# Altium footprint library 6_to_14_Pin.PcbLib: 65 footprints (part 1 of 5)
Each footprint in its own frame and in the unit in brackets; x right, y up, seen from the top. Pads: shape width x height; smd on the part's side, far side on the other; paste and mask are expansions set on the pad; w line width, h text height; cw(c..) or ccw(c..) is an arc to the next point about the centre after c.
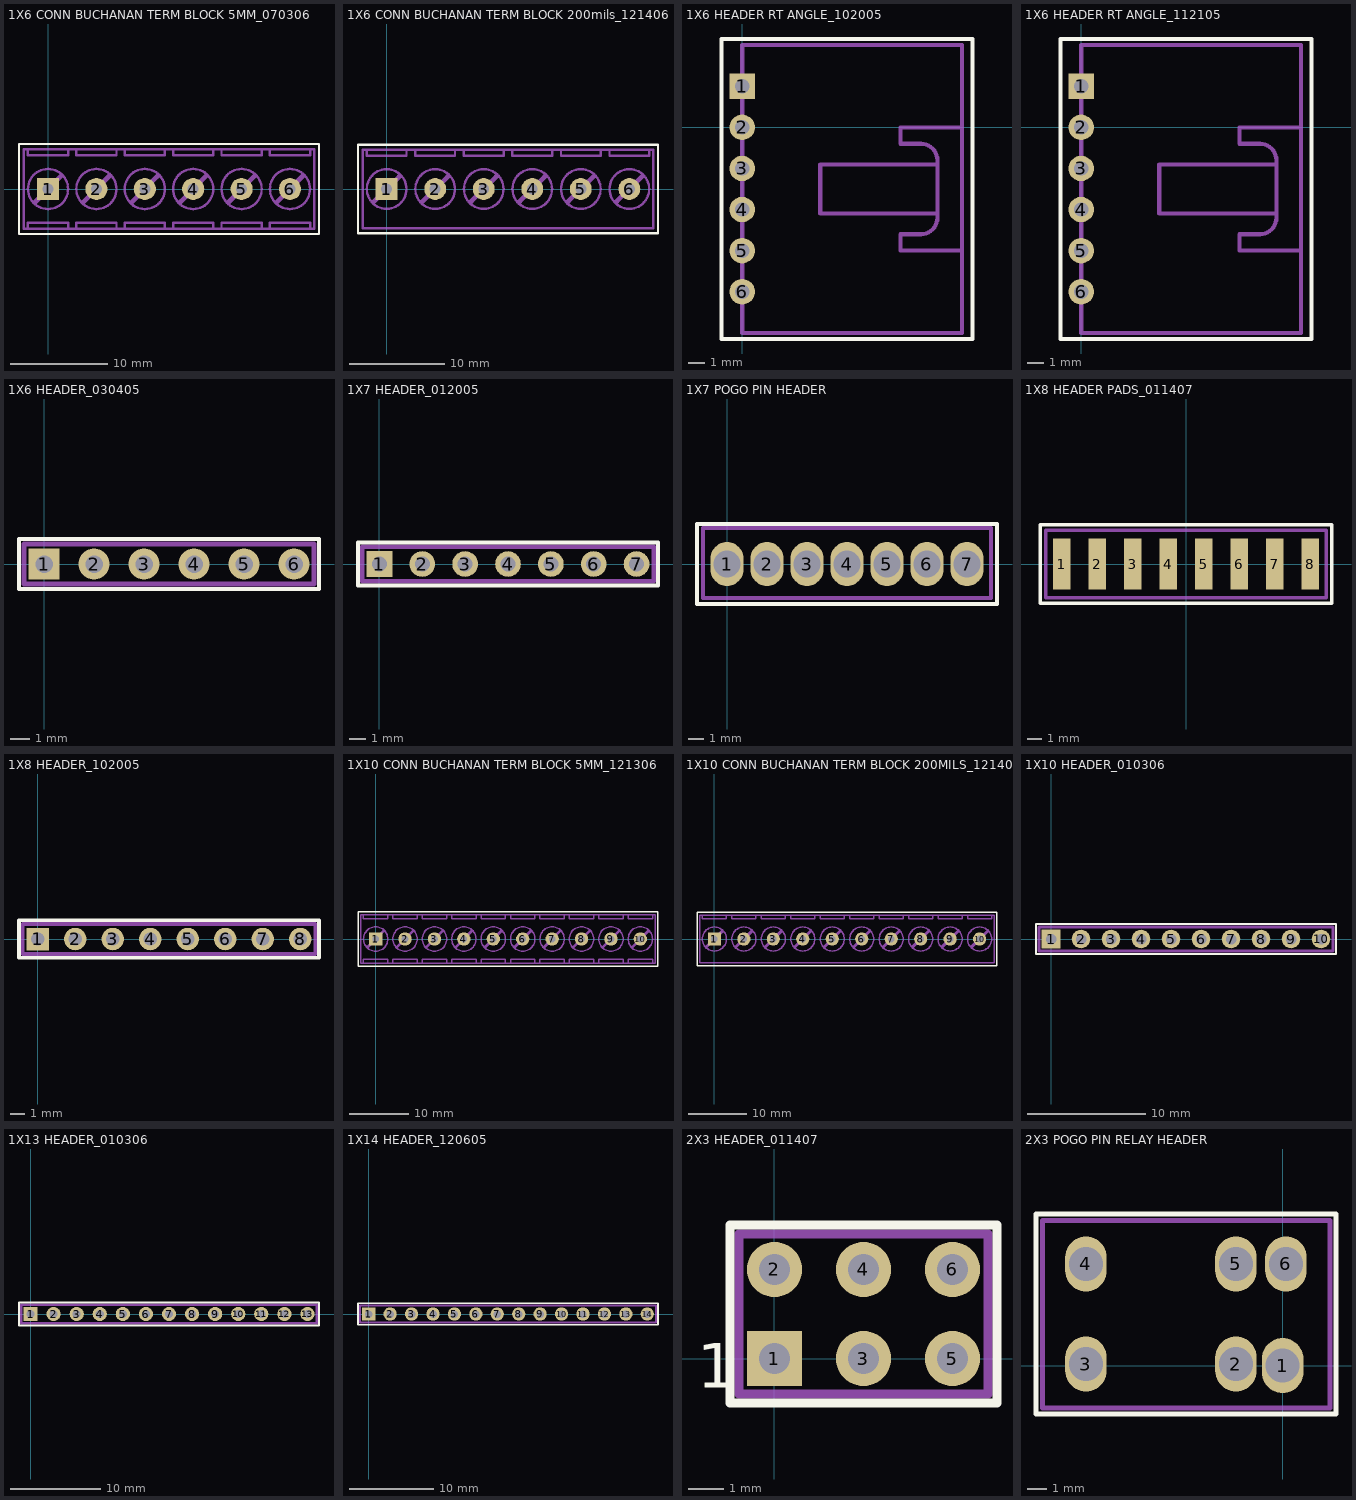
[diagram p0: the footprints below, top view; thin cyan lines are the x and y axes]

## 1X6 CONN BUCHANAN TERM BLOCK 5MM_070306 [mil] "TH"
height 393.7
pads (6):
  rect 90x90 hole 45: 1(0,0)
  round 90 hole 45: 2(196.85,0) 3(393.7,0) 4(590.55,0) 5(787.4,0) 6(984.25,0)
Top Overlay:
  lines w10: -118.11,-183.07 1000.98,-183.07 1102.36,-183.07 1102.36,0 1102.36,183.07 -16.73,183.07 -118.11,183.07 -118.11,0 -118.11,-183.07
Assembly Outline:
  circle w10: c984.25,0 r81.69
  circle w10: c787.4,0 r81.69
  circle w10: c590.55,0 r81.69
  circle w10: c393.7,0 r81.69
  circle w10: c196.85,0 r81.69
  circle w10: c0,0 r81.69
  lines w10: -81.69,-161.42 -81.69,-136.81 0,-136.81 81.69,-136.81 81.69,-161.42 ; -81.69,161.42 -81.69,136.81 0,136.81 81.69,136.81 81.69,161.42 ; 115.16,-161.42 115.16,-136.81 196.85,-136.81 278.54,-136.81 278.54,-161.42 ; 115.16,161.42 115.16,136.81 196.85,136.81 278.54,136.81 278.54,161.42 ; 312.01,-161.42 312.01,-136.81 393.7,-136.81 475.39,-136.81 475.39,-161.42 ; 312.01,161.42 312.01,136.81 393.7,136.81 475.39,136.81 475.39,161.42 ; 508.86,-161.42 508.86,-136.81 590.55,-136.81 672.24,-136.81 672.24,-161.42 ; 508.86,161.42 508.86,136.81 590.55,136.81 672.24,136.81 672.24,161.42 ; 705.71,-161.42 705.71,-136.81 787.4,-136.81 869.09,-136.81 869.09,-161.42 ; 705.71,161.42 705.71,136.81 787.4,136.81 869.09,136.81 869.09,161.42 ; 902.56,-161.42 902.56,-136.81 984.25,-136.81 1065.94,-136.81 1065.94,-161.42 ; 902.56,161.42 902.56,136.81 984.25,136.81 1065.94,136.81 1065.94,161.42 ; 0,-161.42 -98.43,-161.42 -98.43,0 -98.43,161.42 0,161.42 984.25,161.42 1082.68,161.42 1082.68,0 1082.68,-161.42 984.25,-161.42 ; 0,-161.42 984.25,-161.42 ; 0,-161.42 984.25,-161.42
  lines w20: -53.15,-53.15 0,0 53.15,53.15 ; 143.7,-53.15 196.85,0 250,53.15 ; 340.55,-53.15 393.7,0 446.85,53.15 ; 537.4,-53.15 590.55,0 643.7,53.15 ; 734.25,-53.15 787.4,0 840.55,53.15 ; 931.1,-53.15 984.25,0 1037.4,53.15
Assembly Designator:
  text ".Designator" at 464.57,-16.73 h40
Assembly Comment:
  text ".Comment" at 145.67,-113.19 h40

## 1X6 CONN BUCHANAN TERM BLOCK 200mils_121406 [mil] "TH"
height 393.7
pads (6):
  rect 90x90 hole 45: 1(0,0)
  round 90 hole 45: 2(200,0) 3(400,0) 4(600,0) 5(800,0) 6(1000,0)
Top Overlay:
  lines w10: -118.11,-183.07 -118.11,0 -118.11,183.07 -16.73,183.07 1118.11,183.07 1118.11,0 1118.11,-183.07 1000.98,-183.07 -118.11,-183.07
Assembly Outline:
  circle w10: c0,0 r81.69
  circle w10: c200,0 r81.69
  circle w10: c400,0 r81.69
  circle w10: c600,0 r81.69
  circle w10: c800,0 r81.69
  circle w10: c1000,0 r81.69
  lines w10: -81.69,161.42 -81.69,136.81 0,136.81 81.69,136.81 81.69,161.42 ; 118.31,161.42 118.31,136.81 200,136.81 281.69,136.81 281.69,161.42 ; 318.31,161.42 318.31,136.81 400,136.81 481.69,136.81 481.69,161.42 ; 518.31,161.42 518.31,136.81 600,136.81 681.69,136.81 681.69,161.42 ; 718.31,161.42 718.31,136.81 800,136.81 881.69,136.81 881.69,161.42 ; 918.31,161.42 918.31,136.81 1000,136.81 1081.69,136.81 1081.69,161.42 ; 980,-161.42 1098.43,-161.42 1098.43,0 1098.43,161.42 1000,161.42 0,161.42 -98.43,161.42 -98.43,0 -98.43,-161.42 0,-161.42 984.25,-161.42
  lines w20: -53.15,-53.15 0,0 53.15,53.15 ; 146.85,-53.15 200,0 253.15,53.15 ; 346.85,-53.15 400,0 453.15,53.15 ; 546.85,-53.15 600,0 653.15,53.15 ; 746.85,-53.15 800,0 853.15,53.15 ; 946.85,-53.15 1000,0 1053.15,53.15
Assembly Designator:
  text ".Designator" at 464.57,-16.73 h40
Assembly Comment:
  text ".Comment" at 145.67,-113.19 h40

## 1X6 HEADER RT ANGLE_102005 [mil] "TH"
height 200
pads (6):
  rect 62x62 hole 35: 1(0,100)
  round 62 hole 35: 2(0,0) 3(0,-100) 4(0,-200) 5(0,-300) 6(0,-400)
Top Overlay:
  lines w10: -50,-515 -50,215 560,215 560,-515 -50,-515
Assembly Outline:
  lines w10: 0,-500 0,200 ; 0,-500 535,-500 ; 0,-500 535,-500 ; 0,-500 535,-500 ; 0,-500 535,-500 ; 0,200 535,200 ; 0,200 535,200 ; 0,200 535,200 ; 0,200 535,200 ; 190,-210 190,-90 ; 190,-210 475,-210 190,-210 ; 190,-90 475,-90 190,-90 ; 385,-300 385,-260 435,-260 ccw(c435,-220) 475,-220 475,-150 475,-80 ccw(c435,-80) 435,-40 385,-40 385,0 ; 385,-300 535,-300 385,-300 ; 385,0 535,0 ; 385,0 535,0 ; 535,-500 535,0 ; 535,0 535,200
Assembly Designator:
  text ".Designator" at 195,-165 h40
Assembly Comment:
  text ".Comment" at 132.87,-468.5 h40

## 1X6 HEADER RT ANGLE_112105 [mil] "TH"
height 200
pads (6):
  rect 62x62 hole 35: 1(0,100)
  round 62 hole 35: 2(0,0) 3(0,-100) 4(0,-200) 5(0,-300) 6(0,-400)
Top Overlay:
  lines w10: -50,-515 -50,215 560,215 560,-515 -50,-515
Assembly Outline:
  lines w10: 0,-500 0,200 ; 0,-500 0,200 ; 0,-500 535,-500 ; 0,-500 535,-500 ; 0,-500 535,-500 ; 0,-500 535,-500 ; 0,200 535,200 ; 0,200 535,200 ; 0,200 535,200 ; 0,200 535,200 ; 190,-210 190,-90 ; 190,-210 475,-210 190,-210 ; 190,-90 475,-90 190,-90 ; 385,-300 385,-260 435,-260 ccw(c435,-220) 475,-220 475,-150 475,-80 ccw(c435,-80) 435,-40 385,-40 385,0 ; 385,-300 535,-300 385,-300 ; 385,0 535,0 385,0 ; 535,-500 535,200
Assembly Designator:
  text ".Designator" at 195,-165 h40
Assembly Comment:
  text ".Comment" at 55,-370 h40

## 1X6 HEADER_030405 [mil] "TH"
height 300
pads (6):
  rect 62x62 hole 35: 1(0,0)
  round 62 hole 35: 2(100,0) 3(200,0) 4(300,0) 5(400,0) 6(500,0)
Top Overlay:
  lines w8: -50,-50 550,-50 550,50 -50,50 -50,-50
Assembly Outline:
  lines w8: -12,-12 -12,13 13,13 13,-12 -12,-12 ; 88,-12 88,13 113,13 113,-12 88,-12 ; 188,-12 188,13 213,13 213,-12 188,-12 ; 288,-12 288,13 313,13 313,-12 288,-12 ; 388,-12 388,13 413,13 413,-12 388,-12 ; 488,-12 488,13 513,13 513,-12 488,-12
  lines w10: -40,-40 540,-40 540,40 -40,40 -40,-40
Assembly Designator:
  text ".Designator" at 19,-17 h40
Assembly Comment:
  text ".Comment" at -13,-104 h40

## 1X7 HEADER_012005 [mil] "TH"
height 350
pads (7):
  rect 60x60 hole 35: 1(0,0)
  round 60 hole 35: 2(100,0) 3(200,0) 4(300,0) 5(400,0) 6(500,0) 7(600,0)
Top Overlay:
  lines w10: -50,-50 650,-50 650,50 -50,50 -50,-50
Assembly Outline:
  lines w10: -40,-40 -40,0 -40,40 640,40 640,-40 -40,-40
Assembly Designator:
  text ".Designator" at -29,54 h40
Assembly Comment:
  text ".Comment" at -43,-93 h40

## 1X7 POGO PIN HEADER [mil] "TH"
height 350
pads (7):
  oval 83x110 hole 68: 1(0,0) 2(100,0) 3(200,0) 4(300,0) 5(400,0) 6(500,0) 7(600,0)
Top Overlay:
  lines w10: -75,-100 675,-100 675,100 600,100 -75,100 -75,-100
Assembly Outline:
  lines w10: -60,-85 660,-85 660,90 -60,90 -60,-85
Assembly Designator:
  text ".Designator" at 190,-150 h40
Assembly Comment:
  text ".Comment" at 225,-15 h40

## 1X8 HEADER PADS_011407 [mil] "TH"
height 350
pads (8):
  rect 50x145 smd: 1(-350,0) 2(-250,0) 3(-150,0) 4(-50,0) 5(50,0) 6(150,0) 7(250,0) 8(350,0)
Top Overlay:
  lines w10: -410,-110 -410,0 -410,110 -35,110 0,110 35,110 410,110 410,0 410,-110 35,-110 -35,-110 -410,-110
Assembly Outline:
  lines w10: -395,-95 -395,0 -395,95 -50,95 0,95 50,95 395,95 395,0 395,-95 50,-95 0,-95 -50,-95 -395,-95
Assembly Designator:
  text ".Designator" at -50,-10 h40
Assembly Comment:
  text ".Comment" at -285,-165 h40

## 1X8 HEADER_102005 [mil] "TH"
height 350
pads (8):
  rect 60x60 hole 35: 1(0,0)
  round 60 hole 35: 2(100,0) 3(200,0) 4(300,0) 5(400,0) 6(500,0) 7(600,0) 8(700,0)
Top Overlay:
  lines w10: -50,-50 750,-50 750,50 -50,50 -50,-50
Assembly Outline:
  lines w10: -40,-40 -40,0 -40,40 740,40 740,-40 -40,-40
Assembly Designator:
  text ".Designator" at -29,54 h40
Assembly Comment:
  text ".Comment" at -43,-93 h40

## 1X10 CONN BUCHANAN TERM BLOCK 5MM_121306 [mil] "TH"
height 393.7
pads (10):
  rect 90x90 hole 45: 1(0,0)
  round 90 hole 45: 2(196.85,0) 3(393.7,0) 4(590.55,0) 5(787.4,0) 6(984.25,0) 7(1181.1,0) 8(1377.95,0) 9(1574.8,0) 10(1771.65,0)
Top Overlay:
  lines w10: -118.11,-183.07 -118.11,0 -118.11,183.07 -16.73,183.07 1889.76,183.07 1889.76,0 1889.76,-183.07 1000.98,-183.07 -118.11,-183.07
Assembly Outline:
  circle w10: c1771.65,0 r81.69
  circle w10: c1574.8,0 r81.69
  circle w10: c1377.95,0 r81.69
  circle w10: c1181.1,0 r81.69
  circle w10: c0,0 r81.69
  circle w10: c196.85,0 r81.69
  circle w10: c393.7,0 r81.69
  circle w10: c590.55,0 r81.69
  circle w10: c787.4,0 r81.69
  circle w10: c984.25,0 r81.69
  lines w10: -81.69,-161.42 -81.69,-136.81 0,-136.81 81.69,-136.81 81.69,-161.42 ; -81.69,161.42 -81.69,136.81 0,136.81 81.69,136.81 81.69,161.42 ; 115.16,-161.42 115.16,-136.81 196.85,-136.81 278.54,-136.81 278.54,-161.42 ; 115.16,161.42 115.16,136.81 196.85,136.81 278.54,136.81 278.54,161.42 ; 312.01,-161.42 312.01,-136.81 393.7,-136.81 475.39,-136.81 475.39,-161.42 ; 312.01,161.42 312.01,136.81 393.7,136.81 475.39,136.81 475.39,161.42 ; 508.86,-161.42 508.86,-136.81 590.55,-136.81 672.24,-136.81 672.24,-161.42 ; 508.86,161.42 508.86,136.81 590.55,136.81 672.24,136.81 672.24,161.42 ; 705.71,-161.42 705.71,-136.81 787.4,-136.81 869.09,-136.81 869.09,-161.42 ; 705.71,161.42 705.71,136.81 787.4,136.81 869.09,136.81 869.09,161.42 ; 902.56,-161.42 902.56,-136.81 984.25,-136.81 1065.94,-136.81 1065.94,-161.42 ; 902.56,161.42 902.56,136.81 984.25,136.81 1065.94,136.81 1065.94,161.42 ; 1099.41,-161.42 1099.41,-136.81 1181.1,-136.81 1262.8,-136.81 1262.8,-161.42 ; 1099.41,161.42 1099.41,136.81 1181.1,136.81 1262.8,136.81 1262.8,161.42 ; 1296.26,-161.42 1296.26,-136.81 1377.95,-136.81 1459.65,-136.81 1459.65,-161.42 ; 1296.26,161.42 1296.26,136.81 1377.95,136.81 1459.65,136.81 1459.65,161.42 ; 1493.11,-161.42 1493.11,-136.81 1574.8,-136.81 1656.5,-136.81 1656.5,-161.42 ; 1493.11,161.42 1493.11,136.81 1574.8,136.81 1656.5,136.81 1656.5,161.42 ; 1689.96,-161.42 1689.96,-136.81 1771.65,-136.81 1853.35,-136.81 1853.35,-161.42 ; 1689.96,161.42 1689.96,136.81 1771.65,136.81 1853.35,136.81 1853.35,161.42 ; 0,-161.42 984.25,-161.42 ; 0,-161.42 -98.43,-161.42 -98.43,0 -98.43,161.42 0,161.42 984.25,161.42 1870.08,161.42 1870.08,0 1870.08,-161.42 ; 0,-161.42 984.25,-161.42 ; 984.25,-161.42 1870.08,-161.42 ; 984.25,-161.42 1870.08,-161.42
  lines w20: -53.15,-53.15 0,0 53.15,53.15 ; 143.7,-53.15 196.85,0 250,53.15 ; 340.55,-53.15 393.7,0 446.85,53.15 ; 537.4,-53.15 590.55,0 643.7,53.15 ; 734.25,-53.15 787.4,0 840.55,53.15 ; 931.1,-53.15 984.25,0 1037.4,53.15 ; 1127.95,-53.15 1181.1,0 1234.25,53.15 ; 1324.8,-53.15 1377.95,0 1431.1,53.15 ; 1521.65,-53.15 1574.8,0 1627.95,53.15 ; 1718.5,-53.15 1771.65,0 1824.8,53.15
Assembly Designator:
  text ".Designator" at 835,70 h40
Assembly Comment:
  text ".Comment" at 745,-150 h40

## 1X10 CONN BUCHANAN TERM BLOCK 200MILS_121406 [mil] "TH"
height 393.7
pads (10):
  rect 90x90 hole 45: 1(0,0)
  round 90 hole 45: 2(200,0) 3(400,0) 4(600,0) 5(800,0) 6(1000,0) 7(1200,0) 8(1400,0) 9(1600,0) 10(1800,0)
Top Overlay:
  lines w10: -118.11,-183.07 1000.98,-183.07 1918.11,-183.07 1918.11,0 1918.11,183.07 -16.73,183.07 -118.11,183.07 -118.11,0 -118.11,-183.07
Assembly Outline:
  circle w10: c1000,0 r81.69
  circle w10: c800,0 r81.69
  circle w10: c600,0 r81.69
  circle w10: c400,0 r81.69
  circle w10: c200,0 r81.69
  circle w10: c0,0 r81.69
  circle w10: c1200,0 r81.69
  circle w10: c1400,0 r81.69
  circle w10: c1600,0 r81.69
  circle w10: c1800,0 r81.69
  lines w10: -81.69,161.42 -81.69,136.81 0,136.81 81.69,136.81 81.69,161.42 ; 118.31,161.42 118.31,136.81 200,136.81 281.69,136.81 281.69,161.42 ; 318.31,161.42 318.31,136.81 400,136.81 481.69,136.81 481.69,161.42 ; 518.31,161.42 518.31,136.81 600,136.81 681.69,136.81 681.69,161.42 ; 718.31,161.42 718.31,136.81 800,136.81 881.69,136.81 881.69,161.42 ; 918.31,161.42 918.31,136.81 1000,136.81 1081.69,136.81 1081.69,161.42 ; 1118.31,161.42 1118.31,136.81 1200,136.81 1281.69,136.81 1281.69,161.42 ; 1318.31,161.42 1318.31,136.81 1400,136.81 1481.69,136.81 1481.69,161.42 ; 1518.31,161.42 1518.31,136.81 1600,136.81 1681.69,136.81 1681.69,161.42 ; 1718.31,161.42 1718.31,136.81 1800,136.81 1881.69,136.81 1881.69,161.42 ; -98.43,-161.42 -98.43,0 -98.43,161.42 0,161.42 984.25,161.42 1898.42,161.42 1898.42,0 1898.42,-161.42 984.25,-161.42 0,-161.42 -98.43,-161.42
  lines w20: -53.15,-53.15 0,0 53.15,53.15 ; 146.85,-53.15 200,0 253.15,53.15 ; 346.85,-53.15 400,0 453.15,53.15 ; 546.85,-53.15 600,0 653.15,53.15 ; 746.85,-53.15 800,0 853.15,53.15 ; 946.85,-53.15 1000,0 1053.15,53.15 ; 1146.85,-53.15 1200,0 1253.15,53.15 ; 1346.85,-53.15 1400,0 1453.15,53.15 ; 1546.85,-53.15 1600,0 1653.15,53.15 ; 1746.85,-53.15 1800,0 1853.15,53.15
Assembly Designator:
  text ".Designator" at 835,70 h40
Assembly Comment:
  text ".Comment" at 745,-150 h40

## 1X10 HEADER_010306 [mil] "TH"
pads (10):
  rect 62x62 hole 35: 1(0,0)
  round 62 hole 35: 2(100,0) 3(200,0) 4(300,0) 5(400,0) 6(500,0) 7(600,0) 8(700,0) 9(800,0) 10(900,0)
Top Overlay:
  lines w8: -50,-50 950,-50 950,50 25,50 -50,50 -50,-50
Assembly Outline:
  lines w10: -40.01,-40 -40.01,40 939.99,40 939.99,-40 -40.01,-40
Assembly Designator:
  text ".Designator" at -29,54 h40
Assembly Comment:
  text ".Comment" at -43,-93 h40

## 1X13 HEADER_010306 [mil] "TH"
pads (13):
  rect 62x62 hole 35: 1(0,0)
  round 62 hole 35: 2(100,0) 3(200,0) 4(300,0) 5(400,0) 6(500,0) 7(600,0) 8(700,0) 9(800,0) 10(900,0) 11(1000,0) 12(1100,0) 13(1200,0)
Top Overlay:
  lines w8: -50,-50 1250,-50 1250,50 25,50 -50,50 -50,-50
Assembly Outline:
  lines w10: -40.01,-40 -40.01,40 1239.99,40 1239.99,-40 -40.01,-40
Assembly Designator:
  text ".Designator" at -29,54 h40
Assembly Comment:
  text ".Comment" at -43,-93 h40

## 1X14 HEADER_120605 [mil] "TH"
pads (14):
  rect 62x62 hole 35: 1(0,0)
  round 62 hole 35: 2(100,0) 3(200,0) 4(300,0) 5(400,0) 6(500,0) 7(600,0) 8(700,0) 9(800,0) 10(900,0) 11(1000,0) 12(1100,0) 13(1200,0) 14(1300,0)
Top Overlay:
  lines w8: -50,-50 1350,-50 1350,50 25,50 -50,50 -50,-50
Assembly Outline:
  lines w10: -40.01,-40 -40.01,40 1339.99,40 1339.99,-40 -40.01,-40
Assembly Designator:
  text ".Designator" at -29,54 h40
Assembly Comment:
  text ".Comment" at -43,-93 h40

## 2X3 HEADER_011407 [mil] "TH"
pads (6):
  rect 62x62 hole 35: 1(0,0)
  round 62 hole 35: 2(0,100) 3(100,0) 4(100,100) 5(200,0) 6(200,100)
Top Overlay:
  lines w10: -50,-50 250,-50 250,150 -50,150 -50,-50
  text "1" at -87,-33 h50
Assembly Outline:
  lines w10: -40,-40 -40,140 240,140 240,-40 -40,-40 ; -10,-10 -10,10 10,10 10,-10 -10,-10 ; -10,90 -10,110 10,110 10,90 -10,90 ; 90,-10 90,10 110,10 110,-10 90,-10 ; 90,90 90,110 110,110 110,90 90,90 ; 190,-10 190,10 210,10 210,-10 190,-10 ; 190,90 190,110 210,110 210,90 190,90
Assembly Designator:
  text ".Designator" at 55.12,27.56 h40
Assembly Comment:
  text ".Comment" at -10.83,-103.35 h40

## 2X3 POGO PIN RELAY HEADER [mil] "TH"
height 350
pads (6):
  oval 83x110 hole 68: 1(0,0) 2(-93.37,3.09) 3(-393.37,3.09) 4(-393.37,203.09) 5(-93.37,203.09) 6(6.63,203.09)
Top Overlay:
  lines w10: -493.37,-96.91 106.63,-96.91 106.63,3.09 106.63,303.09 -493.37,303.09 -493.37,-96.91
Assembly Outline:
  lines w10: -480,-85 -480,290 95,290 95,-85 -480,-85
Assembly Designator:
  text ".Designator" at -255,85 h40
Assembly Comment:
  text ".Comment" at -415,-145 h40